# EAGLE library part SATA (library Connector)
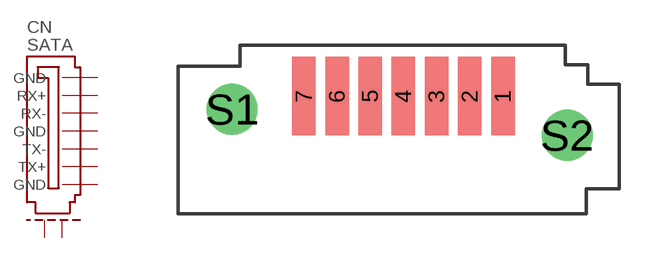
[diagram p6: symbol with the pads of SATA; footprint SATA]

Designator prefix CN

## SATA  [SATA]
1  GND  pas
2  TX+  pas
3  TX-  pas
4  GND  pas
5  RX-  pas
6  RX+  pas
7  GND  pas
S1  S1  pas
S2  S2  pas

## Footprint SATA (pad centres in mm)
smd 0.9 x 3: 1 3.99,1.96; 2 2.72,1.96; 3 1.45,1.96; 4 0.18,1.96; 5 -1.09,1.96; 6 -2.36,1.96; 7 -3.63,1.96
drill 1.3: S1 -6.38,1.46; S2 6.45,0.46